# EAGLE library part MC74HC165A (library gee_s)
On Semiconductor Parallel-in serial-IO Shift Register
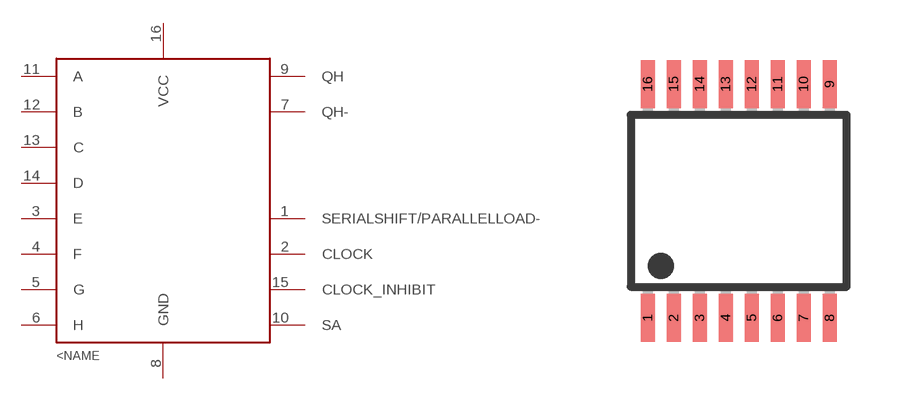
[diagram p2: symbol with the pads of TSSOP16; footprint TSSOP16]

Designator prefix -

## MC74HC165A  [TSSOP16]
1  SERIALSHIFT/PARALLELLOAD-
2  CLOCK
3  E
4  F
5  G
6  H
7  QH-
8  GND
9  QH
10  SA
11  A
12  B
13  C
14  D
15  CLOCK_INHIBIT
16  VCC

## Footprint TSSOP16 (pad centres in mm)
PW (R-PDSO-G8) Source: http://focus.ti.com/lit/ds/symlink/ads1271.pdf
smd 0.35 x 1.2: 1 -2.275,-2.925; 2 -1.625,-2.925; 3 -0.975,-2.925; 4 -0.325,-2.925; 5 0.325,-2.925; 6 0.975,-2.925; 7 1.625,-2.925; 8 2.275,-2.925; 9 2.275,2.925; 10 1.625,2.925; 11 0.975,2.925; 12 0.325,2.925; 13 -0.325,2.925; 14 -0.975,2.925; 15 -1.625,2.925; 16 -2.275,2.925